# EAGLE library part AD7490 (library AD7490)
Analog Devices 16 Channel 12 Bit ADC with SPI interface
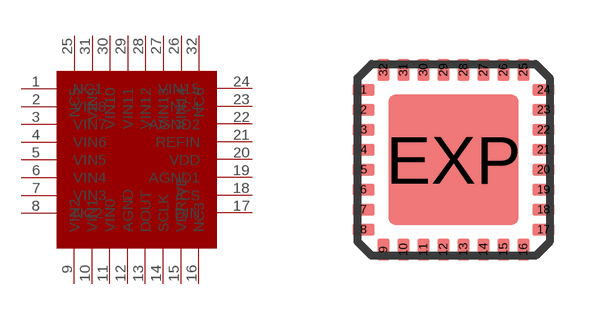
[diagram p0: symbol with the pads of LFCSP32; footprint LFCSP32]

Designator prefix -

## AD7490  [LFCSP32]
1  NC1  nc
2  VIN8  in
3  VIN7  in
4  VIN6  in
5  VIN5
6  VIN4  in
7  VIN3  in
8  NC2  nc
9  VIN2  in
10  VIN1  in
11  VIN0  in
12  AGND  pwr
13  DOUT  out
14  SCLK  in
15  VDRIVE  pwr
16  NC3  nc
17  DIN  in
18  /CS  in
19  AGND1  pwr
20  VDD  pwr
21  REFIN  pas
22  AGND2  pwr
23  NC4  nc
24  VIN15  in
25  NC5  nc
26  VIN14  in
27  VIN13  in
28  VIN12  in
29  VIN11  in
30  VIN10  in
31  VIN9  in
32  NC6  nc

## Footprint LFCSP32 (pad centres in mm)
32-Lead Frame Chip Scale Package [LFCSP_VQ] 5 mm × 5 mm Very Thin Quad (CP-32-3 COMPLIANT TO JEDEC STANDARDS MO-220-VHHD-2 Source: http://www.analog.com/UploadedFiles/Data_Sheets/762180021AD7142_42_1_prd.pdf
smd 0.55 x 0.3: 1 -2.25,1.75; 2 -2.25,1.25; 3 -2.25,0.75; 4 -2.25,0.25; 5 -2.25,-0.25; 6 -2.25,-0.75; 7 -2.25,-1.25; 8 -2.25,-1.75; 17 2.25,-1.75; 18 2.25,-1.25; 19 2.25,-0.75; 20 2.25,-0.25; 21 2.25,0.25; 22 2.25,0.75; 23 2.25,1.25; 24 2.25,1.75
smd 0.3 x 0.55: 9 -1.75,-2.25; 10 -1.25,-2.25; 11 -0.75,-2.25; 12 -0.25,-2.25; 13 0.25,-2.25; 14 0.75,-2.25; 15 1.25,-2.25; 16 1.75,-2.25; 25 1.75,2.25; 26 1.25,2.25; 27 0.75,2.25; 28 0.25,2.25; 29 -0.25,2.25; 30 -0.75,2.25; 31 -1.25,2.25; 32 -1.75,2.25
smd 3.25 x 3.25: EXP 0,0